# Altium footprint library infineon.PCBLIB: 19 footprints (part 2 of 2)
Each footprint in its own frame and in the unit in brackets; x right, y up, seen from the top. Pads: shape width x height; smd on the part's side, far side on the other; paste and mask are expansions set on the pad; w line width, h text height; cw(c..) or ccw(c..) is an arc to the next point about the centre after c.
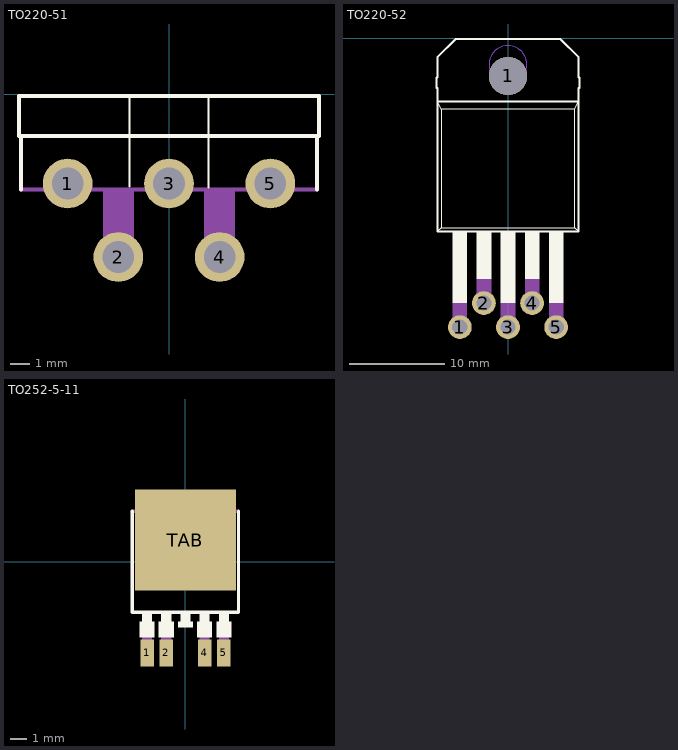
[diagram p1: the footprints below, top view; thin cyan lines are the x and y axes]

## TO220-51 [mm]
pads (5):
  round 2.5 hole 1.6: 1(-5.1,-4.5) 2(-2.55,-8.2) 3(0,-4.5) 4(2.55,-8.2) 5(5.1,-4.5)
Top Overlay:
  lines w0.102: -2,-4.65 -2,-0.2 ; 2,-4.7 2,-0.2
  lines w0.203: -7.55,-2.1 -7.55,-0.1 7.5,-0.1 ; -7.45,-4.8 -7.45,-2.1 7.45,-2.1 7.45,-4.8 ; 7.55,-2.1 7.55,-0.1
Mechanical 16:
  rectangle: -3.31,-8.45 -1.76,-4.8
  rectangle: 1.77,-8.45 3.32,-4.8
  lines w0.203: -7.45,-4.8 7.45,-4.8

## TO220-52 [mm]
pads (6):
  round 2.5 hole 1.6: 1(-5.08,-30.48) 2(-2.54,-27.94) 3(0,-30.48) 4(2.54,-27.94) 5(5.08,-30.48)
  round 4.05 hole 4.05: 1(0,-4)
Top Layer keep-out:
  circle w0: c0,-2.8 r2
Bottom Layer keep-out:
  circle w0: c0,-2.8 r2
Top Overlay:
  rectangle: -5.85,-27.95 -4.3,-20.4
  rectangle: -3.31,-25.41 -1.76,-20.32
  rectangle: -0.77,-27.95 0.78,-20.4
  rectangle: 1.77,-25.41 3.32,-20.32
  rectangle: 4.31,-27.95 5.86,-20.4
  lines w0.102: -7.44,-20.38 -7.04,-19.98 ; -7.34,-6.8 -7.04,-7.5 ; 7.34,-6.8 7.04,-7.5 ; 7.44,-20.38 7.04,-19.98 ; -7.04,-19.98 7.04,-19.98 ; -7.04,-19.98 -7.04,-7.5 ; -7.04,-7.5 7.04,-7.5 ; 7.04,-19.98 7.04,-7.5
  lines w0.203: -7.54,-5.27 -7.54,-4.17 ; -7.45,-4.15 -7.45,-2.05 -5.5,-0.1 5.5,-0.1 7.45,-2.05 7.45,-4.15 ; -7.44,-5.27 -7.44,-6.7 ; 7.44,-5.27 7.44,-6.7 ; 7.54,-5.27 7.54,-4.17 ; -7.44,-6.7 -7.44,-20.38 7.44,-20.38 7.44,-6.7 ; -7.44,-6.7 7.44,-6.7
Mechanical 16:
  rectangle: -5.85,-30.5 -4.3,-27.95
  rectangle: -3.31,-27.96 -1.76,-25.41
  rectangle: -0.77,-30.5 0.78,-27.95
  rectangle: 1.77,-27.96 3.32,-25.41
  rectangle: 4.31,-30.5 5.86,-27.95
Via Holes:
  circle w0: c0,-2.8 r2.7

## TO252-5-11 [mil]
pads (5):
  rect 31.5x62.99 smd: 1(-89.76,-212.99) 2(-44.88,-212.99) 4(44.88,-212.99) 5(89.76,-212.99)
  rect 236.22x236.22 smd: TAB(0,51.18)
Top Overlay:
  rectangle: -101.57,-151.57 -77.95,-120.08
  rectangle: -107.48,-177.17 -72.05,-139.76
  rectangle: -56.69,-151.57 -33.07,-120.08
  rectangle: -62.6,-177.17 -27.17,-139.76
  rectangle: -11.81,-151.57 11.81,-120.08
  rectangle: -17.72,-153.54 17.72,-139.76
  rectangle: 33.07,-151.57 56.69,-120.08
  rectangle: 27.17,-177.17 62.6,-139.76
  rectangle: 77.95,-151.57 101.57,-120.08
  rectangle: 72.05,-177.17 107.48,-139.76
  lines w8: -124.02,118.11 -124.02,-118.11 124.02,-118.11 124.02,118.11
Mechanical 16:
  circle w0: c-49.59,80.07 r7.76
  circle w0: c-13.78,64.56 r2.28
  circle w0.46: c-4.19,28.97 r2.74
  circle w1.36: c11.78,28.97 r2.74
  circle w1.36: c-4.42,28.97 r2.74
  circle w0: c30.71,34.67 r1.02
  rectangle: -101.57,-230.32 -77.95,-175.2
  rectangle: -56.69,-230.32 -33.07,-175.2
  rectangle: 33.07,-230.32 56.69,-175.2
  rectangle: 77.95,-230.32 101.57,-175.2
  rectangle: -51.41,40.15 -47.54,67.98
  rectangle: -42.29,40.15 -38.64,58.85
  rectangle: -34.76,40.15 -31.11,54.29
  rectangle: -27.23,55.89 -19.02,58.85
  rectangle: -25.41,40.15 -21.76,66.38
  rectangle: -15.6,40.15 -11.95,59.08
  rectangle: 0.37,40.15 4.02,54.06
  rectangle: 8.13,48.82 19.3,51.55
  rectangle: 38.92,40.15 42.57,58.85
  rectangle: 46.44,40.15 50.1,54.29
  rectangle: -7.16,40.15 -3.51,58.85
  rectangle: -51.64,25.78 -50.27,34.67
  rectangle: -52.1,31.02 -49.13,32.17
  rectangle: -45.94,28.74 -40.01,29.88
  rectangle: -26.78,25.78 -25.41,37.18
  rectangle: -22.9,25.78 -21.53,30.57
  rectangle: -16.97,25.78 -15.6,32.17
  rectangle: -13.09,25.78 -11.72,30.57
  rectangle: 3.11,25.78 4.47,37.18
  rectangle: 30.02,25.78 31.39,32.39
  rectangle: 35.95,28.74 41.88,29.88
  region: 0,0 10,0 10,10 0,10
  region: 0,0 10,0 10,10 0,10
  region: 0,0 10,0 10,10 0,10
  region: 0,0 10,0 10,10 0,10
  region: 0,0 10,0 10,10 0,10
  region: 0,0 10,0 10,10 0,10
  region: 0,0 10,0 10,10 0,10
  region: 0,0 10,0 10,10 0,10
  region: 0,0 10,0 10,10 0,10
  lines w1.36: -40.69,27.83 cw(c-43.92,29.47) -41.6,26.69 cw(c-42.92,28.96) -44.57,26.92 cw(c-42.87,28.91) -45.48,28.74 cw(c92.46,29.31) -45.48,29.88 cw(c-42.88,29.52) -43.89,31.94 cw(c-43.08,29.87) -41.83,31.71 cw(c-43.38,29.48) -40.69,29.88 -40.69,29.65 ; 19.54,25.41 ccw(c22.09,25.4) 19.78,24.32 ccw(c21.71,25.2) 20.44,23.5 ccw(c22.07,25.56) 21.65,22.97 ccw(c22.02,25.11) 23.18,23.27 ccw(c21.98,25.42) 24.32,24.64 ccw(c20.1,26.05) 24.55,26 ccw(c-182.36,27.82) 24.55,29.65 ccw(c22.8,29.63) 23.86,31.02 ccw(c19.79,25.74) 23.18,31.48 ccw(c21.93,29.34) 20.67,31.48 ccw(c21.94,29.3) 19.76,30.57 ccw(c22.31,29.09) 19.76,27.6 ccw(c21.94,28.87) 20.67,26.69 ccw(c21.95,28.87) 22.72,26.46 ccw(c22.01,28.7) 24.09,27.6 ccw(c20.17,29.68) 24.55,28.97 ccw(c-92.65,30.68) 24.55,32.39 ; 41.2,27.83 cw(c37.96,29.49) 40.29,26.69 cw(c38.97,28.96) 37.32,26.92 cw(c39.02,28.91) 36.41,28.74 cw(c174.35,29.31) 36.41,29.88 cw(c39.01,29.52) 38,31.94 cw(c38.81,29.87) 40.06,31.71 cw(c38.51,29.48) 41.2,29.88 41.2,29.65 ; 46.22,27.15 ccw(c49.12,30.03) 47.13,26.46 ccw(c47.78,27.62) 48.73,26.69 ccw(c47.77,27.64) 48.96,28.29 ccw(c46.98,27.21) 48.04,29.2 cw(c54.46,41.25) 46.9,29.88 cw(c47.48,30.74) 46.44,30.8 cw(c47.73,30.72) 46.9,31.71 cw(c47.59,30.89) 47.82,31.94 cw(c47.38,29.94) 48.73,31.48
  lines w3.65: 17.48,46.99 cw(c2.16,46.67) 17.37,44.81 cw(c13.05,45.15) 16.51,42.54 cw(c14.26,44.48) 14.51,41.52 cw(c13.85,44.7) 11.78,42.2 cw(c15.42,46.08) 10.86,43.34 cw(c17.65,47.37) 9.95,45.62 cw(c27.47,49.63) 9.72,52.46 cw(c26.9,49.71) 10.18,54.52 cw(c21.8,51.22) 10.86,56.34 cw(c13.38,55.16) 15.2,57.26 cw(c9.09,50.31) 16.11,56.34 cw(c13.62,54.2) 16.56,55.66 cw(c8.79,51.77) 17.48,51.78 17.48,50.87 ; 25,45.17 ccw(c29.06,45.62) 26.83,42.2 ccw(c28.82,45.24) 29.8,41.74 ccw(c28.86,45.06) 32.07,43.8 ccw(c22.14,47.76) 32.76,46.54 ccw(c4.46,49.73) 32.76,52.92 ccw(c25.42,52.1) 31.62,56.11 ccw(c29.01,54.42) 29.57,57.48 ccw(c28.66,52.53) 27.74,57.48 ccw(c28.26,54.61) 25.46,55.43 ccw(c43.5,50.18) 24.78,51.78 ccw(c50.82,49.48) 25,45.39
  lines w8: -124.02,118.11 -108.27,118.11 ; 124.02,118.11 108.27,118.11 ; -108.27,118.11 108.27,118.11 ; -108.27,118.11 -108.27,157.48 -78.74,157.48 -78.74,151.57 78.74,151.57 78.74,157.48 108.27,157.48 108.27,118.11